# Altium footprint library 430182070816.PcbLib: 1 footprints
Each footprint in its own frame and in the unit in brackets; x right, y up, seen from the top. Pads: shape width x height; smd on the part's side, far side on the other; paste and mask are expansions set on the pad; w line width, h text height; cw(c..) or ccw(c..) is an arc to the next point about the centre after c.
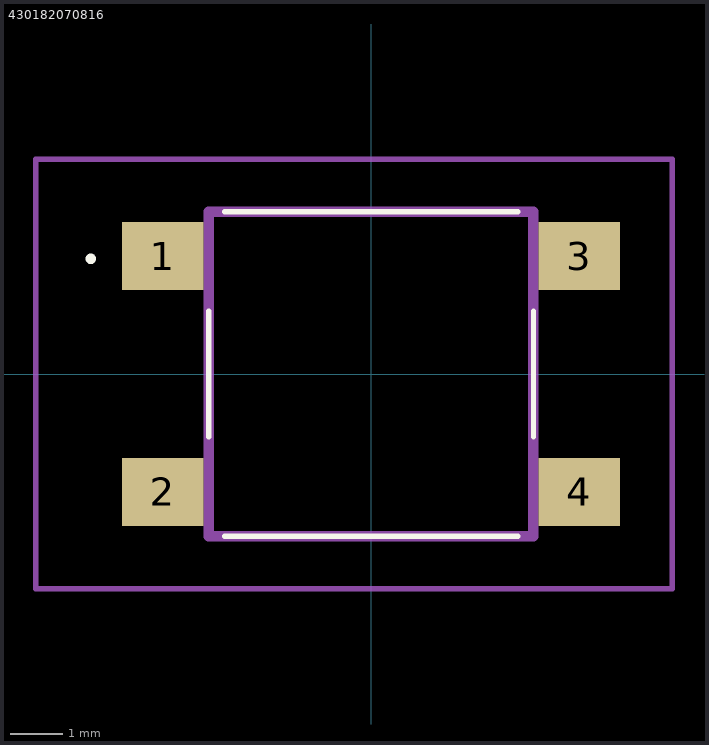
[diagram p0: the footprint, top view; thin cyan lines are the x and y axes]

## 430182070816 [mm]
pads (4):
  rect 1.55x1.3 smd: 1(-3.975,2.25) 2(-3.975,-2.25) 3(3.975,2.25) 4(3.975,-2.25)
Top Overlay:
  lines w0.1: -3.1,-1.2 -3.1,1.2 ; -2.8,-3.1 2.8,-3.1 ; -2.8,3.1 2.8,3.1 ; 3.1,-1.2 3.1,1.2 ; -5.4,2.2 -5.4,2.2 ; -5.4,2.2 ccw(c-5.35,2.2) -5.3,2.2 ; -5.4,2.2 cw(c-5.35,2.2) -5.3,2.2 ; -5.3,2.2 -5.3,2.2
Mechanical 15:
  lines w0.2: -3.1,-3.1 3.1,-3.1 3.1,3.1 -3.1,3.1 -3.1,-3.1
Mechanical 20:
  lines w0.1: -6.4,-4.1 5.75,-4.1 5.75,4.1 -6.4,4.1 -6.4,-4.1